# EAGLE library part OPL4_10X10 (library msx-con)
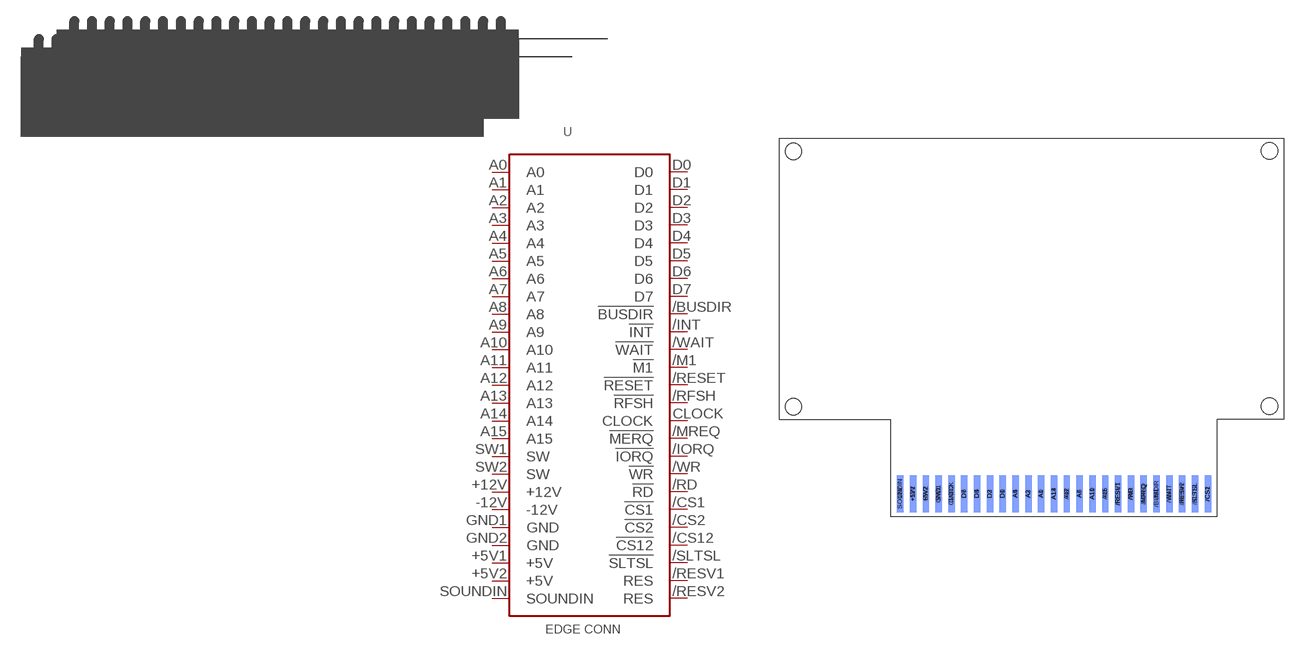
[diagram p4: symbol with the pads of OPL410X10; footprint OPL410X10]

Designator prefix -

## OPL4_10X10  [OPL410X10]
+5V1  +5V  sup
+5V2  +5V  sup
+12V  +12V  sup
-12V  -12V  sup
/BUSDIR  !BUSDIR  in
/CS1  !CS1  out
/CS2  !CS2  out
/CS12  !CS12  out
/INT  !INT  oc
/IORQ  !IORQ  out
/M1  !M1  out
/MREQ  !MERQ  out
/RD  !RD  out
/RESET  !RESET  out
/RESV1  RES  nc
/RESV2  RES  nc
/RFSH  !RFSH  out
/SLTSL  !SLTSL  out
/WAIT  !WAIT  oc
/WR  !WR  out
A0  A0  out
A1  A1  out
A2  A2  out
A3  A3  out
A4  A4  out
A5  A5  out
A6  A6  out
A7  A7  out
A8  A8  out
A9  A9  out
A10  A10  out
A11  A11  out
A12  A12  out
A13  A13  out
A14  A14  out
A15  A15  out
CLOCK  CLOCK  out
D0  D0
D1  D1
D2  D2
D3  D3
D4  D4
D5  D5
D6  D6
D7  D7
GND1  GND  sup
GND2  GND  sup
SOUNDIN  SOUNDIN  pas
SW1  SW  pas
SW2  SW  pas

## Footprint OPL410X10 (pad centres in mm)
smd 1.27 x 7.32 bottom: +5V1 -24.13,-32.362; +5V2 -21.59,-32.362; /CS1 34.29,-32.362; /CS12 31.75,-32.362; /IORQ 21.59,-32.362; /M1 24.13,-32.362; /RESET 16.51,-32.362; /RESV2 29.21,-32.362; /WAIT 26.67,-32.362; /WR 19.05,-32.362; A1 1.27,-32.362; A3 -1.27,-32.362; A5 -3.81,-32.362; A7 8.89,-32.362; A9 13.97,-32.362; A11 11.43,-32.362; A12 6.35,-32.362; A14 3.81,-32.362; D1 -6.35,-32.362; D3 -8.89,-32.362; D5 -11.43,-32.362; D7 -13.97,-32.362; GND1 -19.05,-32.362; GND2 -16.51,-32.362; SOUNDIN -26.67,-32.362
smd 1.27 x 7.32: +12V -24.13,-32.362; -12V -26.67,-32.362; /BUSDIR 24.13,-32.362; /CS2 34.29,-32.362; /INT 26.67,-32.362; /MREQ 21.59,-32.362; /RD 19.05,-32.362; /RESV1 16.51,-32.362; /RFSH 29.21,-32.362; /SLTSL 31.75,-32.362; A0 1.27,-32.362; A2 -1.27,-32.362; A4 -3.81,-32.362; A6 8.89,-32.362; A8 6.35,-32.362; A10 11.43,-32.362; A13 3.81,-32.362; A15 13.97,-32.362; CLOCK -16.51,-32.362; D0 -6.35,-32.362; D2 -8.89,-32.362; D4 -11.43,-32.362; D6 -13.97,-32.362; SW1 -19.05,-32.362; SW2 -21.59,-32.362
hole 3.2 at -47.8,-15.1
hole 3.2 at 46.5,-15
hole 3.2 at -47.8,35.5
hole 3.2 at 46.5,35.6